# EAGLE library part WIRELESS-NRF24L01 (library 1459411900832-nrf24l01plus)
2.4 GHz Wireless Module based on NRF24L01 chip
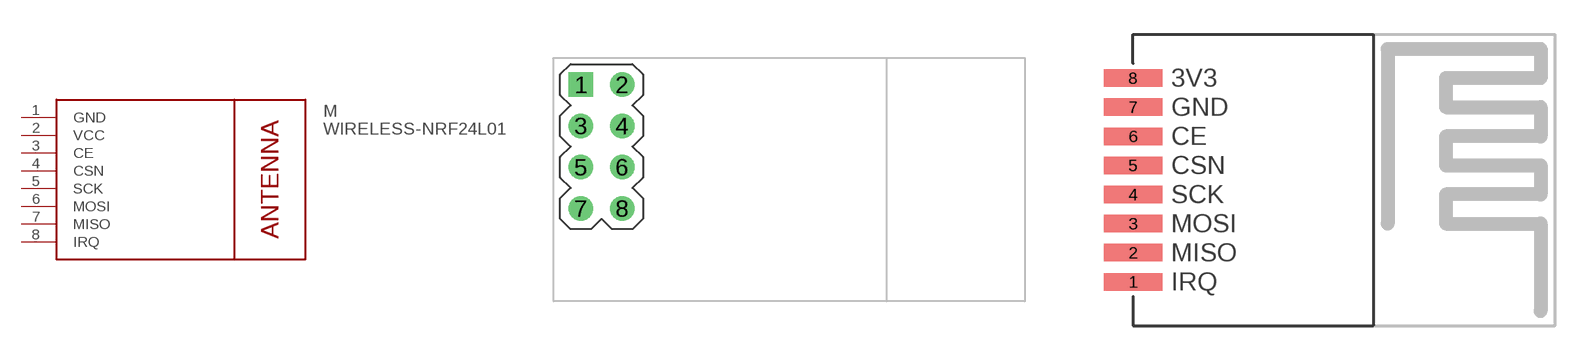
[diagram p0: symbol with the pads of WIRELESS-NRF24L01; footprints WIRELESS-NRF24L01, WIRELESS-NRF24L01-SMD]

Designator prefix M

## WIRELESS-NRF24L01STANDARD  [WIRELESS-NRF24L01]
1  GND  pwr
2  VCC  pwr
3  CE
4  CSN
5  SCK
6  MOSI
7  MISO
8  IRQ

## WIRELESS-NRF24L01SMD  [WIRELESS-NRF24L01-SMD]
1  IRQ
2  MISO
3  MOSI
4  SCK
5  CSN
6  CE
7  GND  pwr
8  VCC  pwr

## WIRELESS-NRF24L01SMD2  [WIRELESS-NRF24L01-SMD-2]
Pads as for WIRELESS-NRF24L01-SMD

## Footprint WIRELESS-NRF24L01 (pad centres in mm)
2.4 GHz Wireless Module based on NRF24L01 chip
drill 1 square: 1 -12.7,6.35
drill 1: 2 -10.16,6.35; 3 -12.7,3.81; 4 -10.16,3.81; 5 -12.7,1.27; 6 -10.16,1.27; 7 -12.7,-1.27; 8 -10.16,-1.27

## Footprint WIRELESS-NRF24L01-SMD (pad centres in mm)
smd 2.54 x 0.762: 1 1.27,0; 2 1.27,1.27; 3 1.27,2.54; 4 1.27,3.81; 5 1.27,5.08; 6 1.27,6.35; 7 1.27,7.62; 8 1.27,8.89

## Footprint WIRELESS-NRF24L01-SMD-2 (pad centres in mm)
drill 0.5 pad 1.016 offset: 1 1.905,0; 2 1.905,1.27; 3 1.905,2.54; 4 1.905,3.81; 5 1.905,5.08; 6 1.905,6.35; 7 1.905,7.62; 8 1.905,8.89